# Altium schematic symbol library FadigasLibSCH.SchLib: 31 symbols
Pins are listed as number, name and electrical type; pins without a type are passive.

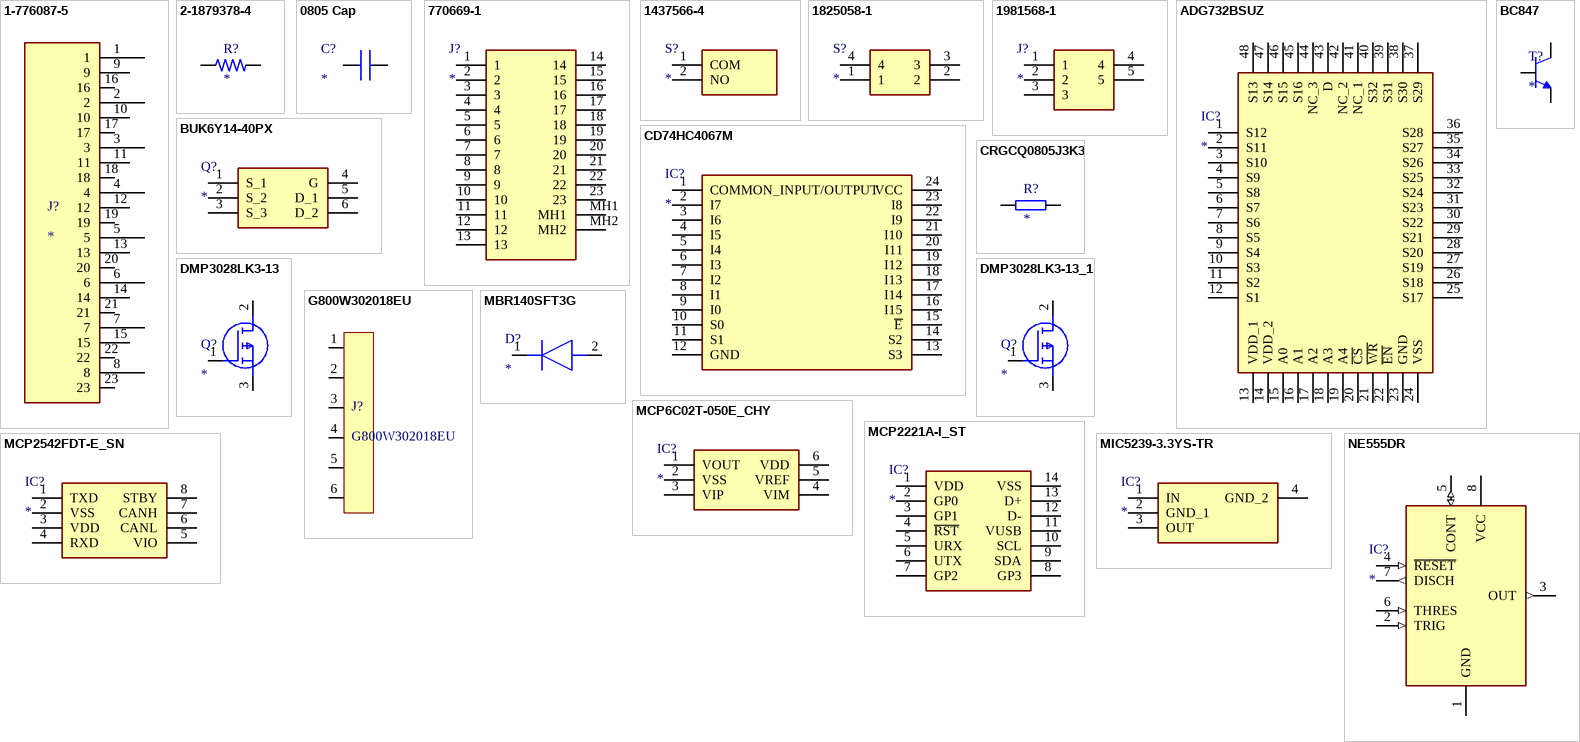
[diagram p0: symbols 1-776087-5 to NE555DR]

## 1-776087-5
designator J?
CONN HDR 23POS R/A W/GASKET AU; MF: {'manufacturer': 'TE Connectivity'}; MP: 1-776087-5; Package: None; Value: *; Availability: Unavailable; Price: None
footprint TE_1-776087-5
pins: 1, 2, 3, 4, 5, 6, 7, 8, 9, 10, 11, 12, 13, 14, 15, 16, 17, 18, 19, 20, 21, 22, 23

## 2-1879378-4
designator R?
TLR 2512 3.0W R002 1% 50PPM 2K RL; MP: 2-1879378-4; Package: None; Price: None; Value: *; Availability: Unavailable
footprint RESC6331X70N
pins: 1, 2

## 0805 Cap
designator C?
Capacitor; Manufacturer_Name: AVX; Manufacturer_Part_Number: 08055A471KAT2A; Datasheet Link: https://componentsearchengine.com/Datasheets/1/06031A100FAT2A.pdf; Height: 0.94mm; Mouser Part Number: 581-08055A471K; Mouser Price/Stock: https://www.mouser.com/Search/Refine.aspx?Keyword=581-08055A471K
footprint CAPC2012X94N
pins: 1, 2

## 770669-1
designator J?
Connector; Manufacturer_Name: TE Connectivity; Manufacturer_Part_Number: 770669-1; Datasheet Link: https://www.te.com/commerce/DocumentDelivery/DDEController?Action=showdoc&DocId=Customer+Drawing%7F770669%7FL%7Fpdf%7FEnglish%7FENG_CD_770669_L.pdf%7F770669-1; Height: 32.3mm; Mouser Part Number: 571-770669-1; Mouser Price/Stock: https://www.mouser.co.uk/ProductDetail/TE-Connectivity/770669-1?qs=bVE8zYB%2Fq2eQrARJAzxzTA%3D%3D; Arrow Part Number: 770669-1; Arrow Price/Stock: https://www.arrow.com/en/products/770669-1/te-connectivity?region=nac
footprint 7706691
pins: 1, 2, 3, 4, 5, 6, 7, 8, 9, 10, 11, 12, 13, 14, 15, 16, 17, 18, 19, 20, 21, 22, 23, MH1, MH2

## 1437566-4
designator S?
Switch; Manufacturer_Name: TE Connectivity; Manufacturer_Part_Number: 1437566-4; Datasheet Link: https://www.te.com/commerce/DocumentDelivery/DDEController?Action=showdoc&DocId=Customer+Drawing%7F1437566-3%7FC2%7Fpdf%7FEnglish%7FENG_CD_1437566-3_C7F14375662_1437566_3_1_c.dwg.pdf%-4; Height: 4.87mm; Mouser Part Number: N/A; Mouser Price/Stock: https://www.mouser.co.uk/ProductDetail/TE-Connectivity-Alcoswitch/1437566-4?qs=xoXDFGdkQ2nbcMrTmW1sHA%3D%3D; Arrow Part Number: 1437566-4; Arrow Price/Stock: https://www.arrow.com/en/products/1437566-4/te-connectivity?region=europe
footprint 14375664
pins: 1 COM, 2 NO

## 1825058-1
designator S?
Switch; Manufacturer_Name: TE Connectivity; Manufacturer_Part_Number: 1825058-1; Datasheet Link: http://www.te.com/commerce/DocumentDelivery/DDEController?Action=srchrtrv&DocNm=1825058&DocType=Customer+Drawing&DocLang=English; Height: 3.5mm; Arrow Part Number: 1825058-1; Arrow Price/Stock: https://www.arrow.com/en/products/1825058-1/te-connectivity?region=europe
footprint 18250581
pins: 1, 2, 3, 4

## 1981568-1
designator J?
Connector; Manufacturer_Name: TE Connectivity; Manufacturer_Part_Number: 1981568-1; Datasheet Link: http://www.te.com/commerce/DocumentDelivery/DDEController?Action=srchrtrv&DocNm=1981568&DocType=Customer+Drawing&DocLang=English; Mouser Part Number: 571-1981568-1; Mouser Price/Stock: https://www.mouser.co.uk/ProductDetail/TE-Connectivity/1981568-1?qs=zxTme0yW%2FbaAfvOKTKC5hw%3D%3D; Arrow Part Number: 1981568-1; Arrow Price/Stock: https://www.arrow.com/en/products/1981568-1/te-connectivity?region=nac
footprint 1981568-1
pins: 1, 2, 3, 4, 5

## ADG732BSUZ
designator IC?
Integrated Circuit; Manufacturer_Name: Analog Devices; Manufacturer_Part_Number: ADG732BSUZ; Datasheet Link: https://datasheet.datasheetarchive.com/originals/distributors/Datasheets-4/DSA-69835.pdf; Height: 1.2mm; Mouser Part Number: 584-ADG732BSUZ; Mouser Price/Stock: https://www.mouser.co.uk/ProductDetail/Analog-Devices/ADG732BSUZ?qs=BpaRKvA4VqFZhnJK9M1XMA%3D%3D; Arrow Part Number: ADG732BSUZ; Arrow Price/Stock: https://www.arrow.com/en/products/adg732bsuz/analog-devices?region=nac
footprint QFP50P900X900X120-48N
pins: 1 S12, 2 S11, 3 S10, 4 S9, 5 S8, 6 S7, 7 S6, 8 S5, 9 S4, 10 S3, 11 S2, 12 S1, 13 VDD_1, 14 VDD_2, 15 A0, 16 A1, 17 A2, 18 A3, 19 A4, 20 ~{CS}, 21 ~{WR}, 22 ~{EN}, 23 GND, 24 VSS, 25 S17, 26 S18, 27 S19, 28 S20, 29 S21, 30 S22, 31 S23, 32 S24, 33 S25, 34 S26, 35 S27, 36 S28, 37 S29, 38 S30, 39 S31, 40 S32, 41 NC_1, 42 NC_2, 43 D, 44 NC_3, 45 S16, 46 S15, 47 S14, 48 S13

## BC847
designator T?
<b>NPN TRANSISTOR</b>; MP: BC847; Availability: Unavailable; Package: None; Value: *; Price: None
footprint SOT23
pins: 1 B, 2 E, 3 C

## BUK6Y14-40PX
designator Q?
MOSFET (P-Channel); Manufacturer_Name: Nexperia; Manufacturer_Part_Number: BUK6Y14-40PX; Datasheet Link: https://assets.nexperia.com/documents/data-sheet/BUK6Y14-40P.pdf; Height: 1.2mm; Mouser Part Number: 771-BUK6Y14-40PX; Mouser Price/Stock: https://www.mouser.co.uk/ProductDetail/Nexperia/BUK6Y14-40PX?qs=vmHwEFxEFR91d%252BcXKqAEkw%3D%3D
footprint BUK6Y1440PX
pins: 1 S_1, 2 S_2, 3 S_3, 4 G, 5 D_1, 6 D_2

## CD74HC4067M
designator IC?
Integrated Circuit; Manufacturer_Name: Texas Instruments; Manufacturer_Part_Number: CD74HC4067M; Datasheet Link: http://www.ti.com/lit/ds/symlink/cd74hc4067.pdf; Height: 2.65mm; Mouser Part Number: 595-CD74HC4067M; Mouser Price/Stock: https://www.mouser.co.uk/ProductDetail/Texas-Instruments/CD74HC4067M?qs=DcvZ7Fltd5zoWTm6dRwGeQ%3D%3D; Arrow Part Number: CD74HC4067M; Arrow Price/Stock: https://www.arrow.com/en/products/cd74hc4067m/texas-instruments?region=nac
footprint SOIC127P1030X265-24N
pins: 1 COMMON_INPUT/OUTPUT, 2 I7, 3 I6, 4 I5, 5 I4, 6 I3, 7 I2, 8 I1, 9 I0, 10 S0, 11 S1, 12 GND, 13 S3, 14 S2, 15 ~{E}, 16 I15, 17 I14, 18 I13, 19 I12, 20 I11, 21 I10, 22 I9, 23 I8, 24 VCC

## CRGCQ0805J3K3
designator R?
Fixed Resistor CRGCQ 0805 3K3 5%; MP: CRGCQ0805J3K3; Package: None; Price: None; Value: *; Availability: Unavailable
footprint RESC2012X65N
pins: 1, 2

## DMP3028LK3-13
designator Q?
MOSFET (P-Channel); Manufacturer_Name: Diodes Inc.; Manufacturer_Part_Number: DMP3028LK3-13; Datasheet Link: https://componentsearchengine.com/Datasheets/1/DMP3028LK3-13.pdf; Height: 2.39mm; Mouser Part Number: 621-DMP3028LK3-13; Mouser Price/Stock: https://www.mouser.co.uk/ProductDetail/Diodes-Incorporated/DMP3028LK3-13?qs=OVC8WVYZliSFpRP3sPErZQ%3D%3D; Arrow Part Number: DMP3028LK3-13; Arrow Price/Stock: https://www.arrow.com/en/products/dmp3028lk3-13/diodes-incorporated
footprint DMP3028LK313 (Footprint not found)
pins: 1 G, 2 D, 3 S

## DMP3028LK3-13_1
designator Q?
MOSFET (P-Channel); Manufacturer_Name: Diodes Inc.; Manufacturer_Part_Number: DMP3028LK3-13; Datasheet Link: https://componentsearchengine.com/Datasheets/1/DMP3028LK3-13.pdf; Height: 2.39mm; Mouser Part Number: 621-DMP3028LK3-13; Mouser Price/Stock: https://www.mouser.co.uk/ProductDetail/Diodes-Incorporated/DMP3028LK3-13?qs=OVC8WVYZliSFpRP3sPErZQ%3D%3D; Arrow Part Number: DMP3028LK3-13; Arrow Price/Stock: https://www.arrow.com/en/products/dmp3028lk3-13/diodes-incorporated
footprint DMP3028LK313
pins: 1 G, 2 D, 3 S

## G800W302018EU
designator J?
Pin Header 6 Position 2.54mm Pitch; Manufacturer: Amphenol; Manufacturer Part Number: G800W302018EU
footprint G800W302018EU (Footprint not found)
pins: 1, 2, 3, 4, 5, 6

## MBR140SFT3G
designator D?
Diode; Manufacturer_Name: onsemi; Manufacturer_Part_Number: MBR140SFT3G; Datasheet Link: https://componentsearchengine.com/Datasheets/2/MBR140SFT3G.pdf; Height: 0.98mm; Mouser Part Number: 863-MBR140SFT3G; Mouser Price/Stock: https://www.mouser.co.uk/ProductDetail/onsemi/MBR140SFT3G?qs=3JMERSakebocVlQyvh5H6Q%3D%3D; Arrow Part Number: MBR140SFT3G; Arrow Price/Stock: https://www.arrow.com/en/products/mbr140sft3g/on-semiconductor?region=nac
footprint SODFL3616X98N
pins: 1 K, 2 A

## MCP6C02T-050E_CHY
designator IC?
Integrated Circuit; Manufacturer_Name: Microchip; Manufacturer_Part_Number: MCP6C02T-050E/CHY; Datasheet Link: https://www.arrow.com/en/products/mcp6c02t-050echy/microchip-technology; Height: 1.45mm; Mouser Part Number: 579-MCP6C02T050ECHY; Mouser Price/Stock: https://www.mouser.co.uk/ProductDetail/Microchip-Technology/MCP6C02T-050E-CHY?qs=PqoDHHvF649UEQQr%2FDD6GQ%3D%3D; Arrow Part Number: MCP6C02T-050E/CHY; Arrow Price/Stock: https://www.arrow.com/en/products/mcp6c02t-050echy/microchip-technology
footprint SOT95P280X145-6N
pins: 1 VOUT, 2 VSS, 3 VIP, 4 VIM, 5 VREF, 6 VDD

## MCP2221A-I_ST
designator IC?
Integrated Circuit; Manufacturer_Name: Microchip; Manufacturer_Part_Number: MCP2221A-I/ST; Datasheet Link: http://ww1.microchip.com/downloads/en/devicedoc/20005565b.pdf; Height: 1.2mm; Mouser Part Number: 579-MCP2221A-I/ST; Mouser Price/Stock: https://www.mouser.co.uk/ProductDetail/Microchip-Technology-Atmel/MCP2221A-I-ST?qs=ZEMkBHnybREMkqMgzOrcGQ%3D%3D; Arrow Part Number: MCP2221A-I/ST; Arrow Price/Stock: https://www.arrow.com/en/products/mcp2221a-ist/microchip-technology?region=nac
footprint SOP65P640X120-14N
pins: 1 VDD, 2 GP0, 3 GP1, 4 ~{RST}, 5 URX, 6 UTX, 7 GP2, 8 GP3, 9 SDA, 10 SCL, 11 VUSB, 12 D-, 13 D+, 14 VSS

## MCP2542FDT-E_SN
designator IC?
Integrated Circuit; Manufacturer_Name: Microchip; Manufacturer_Part_Number: MCP2542FDT-E/SN; Datasheet Link: https://ww1.microchip.com/downloads/en/DeviceDoc/MCP2542FD-MCP2542WFD-4WFD-Data-Sheet-DS20005514C.pdf; Height: 1.75mm; Mouser Part Number: 579-MCP2542FDT-E/SN; Mouser Price/Stock: https://www.mouser.co.uk/ProductDetail/Microchip-Technology-Atmel/MCP2542FDT-E-SN?qs=qdgZG5p0FZ7dgTYBMrlrQQ%3D%3D; Arrow Part Number: MCP2542FDT-E/SN; Arrow Price/Stock: https://www.arrow.com/en/products/mcp2542fdt-esn/microchip-technology?region=nac
footprint SOIC127P600X175-8N
pins: 1 TXD, 2 VSS, 3 VDD, 4 RXD, 5 VIO, 6 CANL, 7 CANH, 8 STBY

## MIC5239-3.3YS-TR
designator IC?
Integrated Circuit; Manufacturer_Name: Microchip; Manufacturer_Part_Number: MIC5239-3.3YS-TR; Datasheet Link: https://ww1.microchip.com/downloads/en/DeviceDoc/mic5239.pdf; Height: 1.8mm; Mouser Part Number: 998-MIC5239-3.3YSTR; Mouser Price/Stock: https://www.mouser.co.uk/ProductDetail/Microchip-Technology-Micrel/MIC5239-33YS-TR?qs=U6T8BxXiZAXN0UitWWB92A%3D%3D; Arrow Part Number: MIC5239-3.3YS-TR; Arrow Price/Stock: https://www.arrow.com/en/products/mic5239-3.3ys-tr/microchip-technology?region=nac
footprint SOT230P700X180-4N
pins: 1 IN, 2 GND_1, 3 OUT, 4 GND_2

## NE555DR
designator IC?
Integrated Circuit; Manufacturer_Name: Texas Instruments; Manufacturer_Part_Number: NE555DR; Datasheet Link: http://www.ti.com/lit/ds/symlink/ne555.pdf; Height: 1.75mm; Mouser Part Number: 595-NE555DR; Mouser Price/Stock: https://www.mouser.com/Search/Refine.aspx?Keyword=595-NE555DR; RS Part Number: 1218414; RS Price/Stock: http://uk.rs-online.com/web/p/products/1218414
footprint SOIC127P600X175-8N
pins: 1 GND (power), 2 TRIG (in), 3 OUT (out), 4 ~{RESET} (in), 5 CONT (io), 6 THRES (in), 7 DISCH (out), 8 VCC (power)

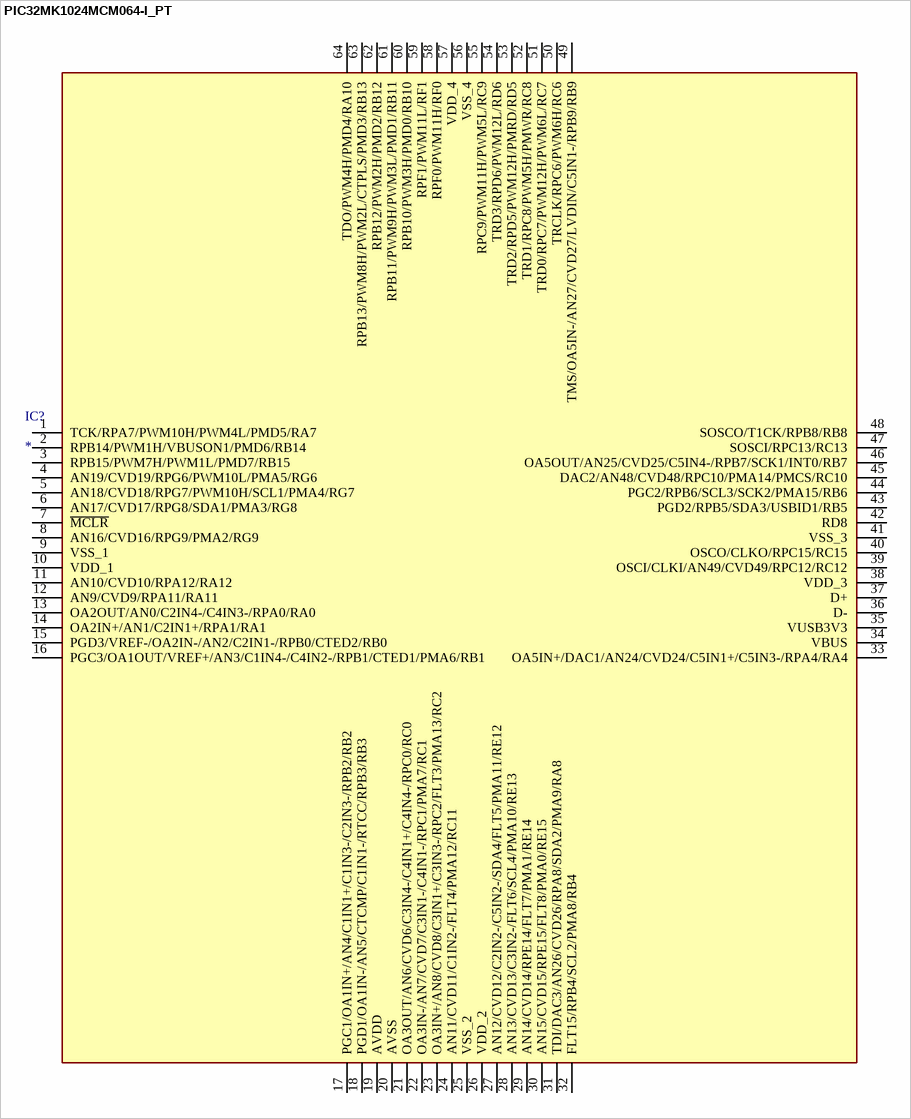
[diagram p1: symbol PIC32MK1024MCM064-I_PT]

## PIC32MK1024MCM064-I_PT
designator IC?
Integrated Circuit; Manufacturer_Name: Microchip; Manufacturer_Part_Number: PIC32MK1024MCM064-I/PT; Datasheet Link: https://ww1.microchip.com/downloads/aemDocuments/documents/MCU32/ProductDocuments/DataSheets/PIC32MK-GPK-MCM-with-CAN-FD-Family-DataSheet-DS60001519E.pdf; Height: 1.2mm; Mouser Part Number: 579-2MK1024MCM064IPT; Mouser Price/Stock: https://www.mouser.co.uk/ProductDetail/Microchip-Technology/PIC32MK1024MCM064-I-PT?qs=W%2FMpXkg%252BdQ4dBI32NJdQMg%3D%3D; Arrow Part Number: PIC32MK1024MCM064-I/PT; Arrow Price/Stock: https://www.arrow.com/en/products/pic32mk1024mcm064-ipt/microchip-technology?region=nac
footprint QFP50P1200X1200X120-64N
pins: 1 TCK/RPA7/PWM10H/PWM4L/PMD5/RA7, 2 RPB14/PWM1H/VBUSON1/PMD6/RB14, 3 RPB15/PWM7H/PWM1L/PMD7/RB15, 4 AN19/CVD19/RPG6/PWM10L/PMA5/RG6, 5 AN18/CVD18/RPG7/PWM10H/SCL1/PMA4/RG7, 6 AN17/CVD17/RPG8/SDA1/PMA3/RG8, 7 ~{MCLR}, 8 AN16/CVD16/RPG9/PMA2/RG9, 9 VSS_1, 10 VDD_1, 11 AN10/CVD10/RPA12/RA12, 12 AN9/CVD9/RPA11/RA11, 13 OA2OUT/AN0/C2IN4-/C4IN3-/RPA0/RA0, 14 OA2IN+/AN1/C2IN1+/RPA1/RA1, 15 PGD3/VREF-/OA2IN-/AN2/C2IN1-/RPB0/CTED2/RB0, 16 PGC3/OA1OUT/VREF+/AN3/C1IN4-/C4IN2-/RPB1/CTED1/PMA6/RB1, 17 PGC1/OA1IN+/AN4/C1IN1+/C1IN3-/C2IN3-/RPB2/RB2, 18 PGD1/OA1IN-/AN5/CTCMP/C1IN1-/RTCC/RPB3/RB3, 19 AVDD, 20 AVSS, 21 OA3OUT/AN6/CVD6/C3IN4-/C4IN1+/C4IN4-/RPC0/RC0, 22 OA3IN-/AN7/CVD7/C3IN1-/C4IN1-/RPC1/PMA7/RC1, 23 OA3IN+/AN8/CVD8/C3IN1+/C3IN3-/RPC2/FLT3/PMA13/RC2, 24 AN11/CVD11/C1IN2-/FLT4/PMA12/RC11, 25 VSS_2, 26 VDD_2, 27 AN12/CVD12/C2IN2-/C5IN2-/SDA4/FLT5/PMA11/RE12, 28 AN13/CVD13/C3IN2-/FLT6/SCL4/PMA10/RE13, 29 AN14/CVD14/RPE14/FLT7/PMA1/RE14, 30 AN15/CVD15/RPE15/FLT8/PMA0/RE15, 31 TDI/DAC3/AN26/CVD26/RPA8/SDA2/PMA9/RA8, 32 FLT15/RPB4/SCL2/PMA8/RB4, 33 OA5IN+/DAC1/AN24/CVD24/C5IN1+/C5IN3-/RPA4/RA4, 34 VBUS, 35 VUSB3V3, 36 D-, 37 D+, 38 VDD_3, 39 OSCI/CLKI/AN49/CVD49/RPC12/RC12, 40 OSCO/CLKO/RPC15/RC15, 41 VSS_3, 42 RD8, 43 PGD2/RPB5/SDA3/USBID1/RB5, 44 PGC2/RPB6/SCL3/SCK2/PMA15/RB6, 45 DAC2/AN48/CVD48/RPC10/PMA14/PMCS/RC10, 46 OA5OUT/AN25/CVD25/C5IN4-/RPB7/SCK1/INT0/RB7, 47 SOSCI/RPC13/RC13, 48 SOSCO/T1CK/RPB8/RB8, 49 TMS/OA5IN-/AN27/CVD27/LVDIN/C5IN1-/RPB9/RB9, 50 TRCLK/RPC6/PWM6H/RC6, 51 TRD0/RPC7/PWM12H/PWM6L/RC7, 52 TRD1/RPC8/PWM5H/PMWR/RC8, 53 TRD2/RPD5/PWM12H/PMRD/RD5, 54 TRD3/RPD6/PWM12L/RD6, 55 RPC9/PWM11H/PWM5L/RC9, 56 VSS_4, 57 VDD_4, 58 RPF0/PWM11H/RF0, 59 RPF1/PWM11L/RF1, 60 RPB10/PWM3H/PMD0/RB10, 61 RPB11/PWM9H/PWM3L/PMD1/RB11, 62 RPB12/PWM2H/PMD2/RB12, 63 RPB13/PWM8H/PWM2L/CTPLS/PMD3/RB13, 64 TDO/PWM4H/PMD4/RA10

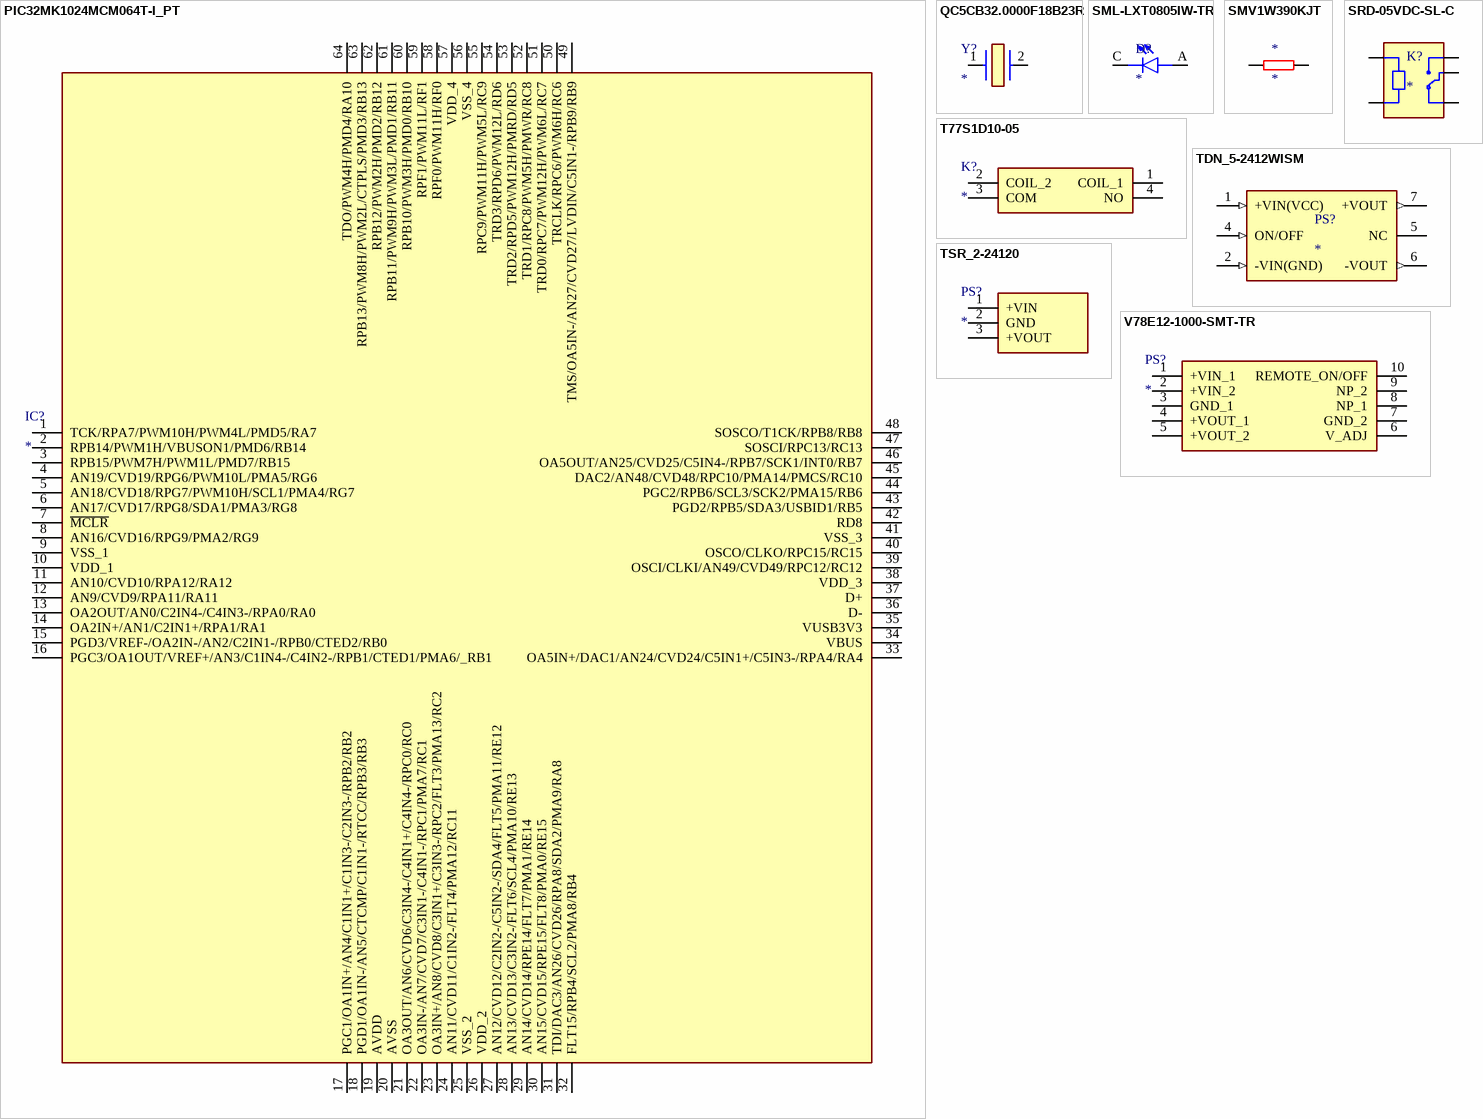
[diagram p2: symbols PIC32MK1024MCM064T-I_PT to V78E12-1000-SMT-TR]

## PIC32MK1024MCM064T-I_PT
designator IC?
Integrated Circuit; Manufacturer_Name: Microchip; Manufacturer_Part_Number: PIC32MK1024MCM064T-I/PT; Datasheet Link: https://www.microchip.com/wwwproducts/en/PIC32MK1024MCM064; Height: 1.2mm; Mouser Part Number: 579-1024MCM064T-I/PT; Mouser Price/Stock: https://www.mouser.co.uk/ProductDetail/Microchip-Technology/PIC32MK1024MCM064T-I-PT?qs=W%2FMpXkg%252BdQ4o%252BC4RJAPAZQ%3D%3D; Arrow Part Number: PIC32MK1024MCM064T-I/PT; Arrow Price/Stock: https://www.arrow.com/en/products/pic32mk1024mcm064t-ipt/microchip-technology?region=nac
footprint QFP50P1200X1200X120-64N
pins: 1 TCK/RPA7/PWM10H/PWM4L/PMD5/RA7, 2 RPB14/PWM1H/VBUSON1/PMD6/RB14, 3 RPB15/PWM7H/PWM1L/PMD7/RB15, 4 AN19/CVD19/RPG6/PWM10L/PMA5/RG6, 5 AN18/CVD18/RPG7/PWM10H/SCL1/PMA4/RG7, 6 AN17/CVD17/RPG8/SDA1/PMA3/RG8, 7 ~{MCLR}, 8 AN16/CVD16/RPG9/PMA2/RG9, 9 VSS_1, 10 VDD_1, 11 AN10/CVD10/RPA12/RA12, 12 AN9/CVD9/RPA11/RA11, 13 OA2OUT/AN0/C2IN4-/C4IN3-/RPA0/RA0, 14 OA2IN+/AN1/C2IN1+/RPA1/RA1, 15 PGD3/VREF-/OA2IN-/AN2/C2IN1-/RPB0/CTED2/RB0, 16 PGC3/OA1OUT/VREF+/AN3/C1IN4-/C4IN2-/RPB1/CTED1/PMA6/_RB1, 17 PGC1/OA1IN+/AN4/C1IN1+/C1IN3-/C2IN3-/RPB2/RB2, 18 PGD1/OA1IN-/AN5/CTCMP/C1IN1-/RTCC/RPB3/RB3, 19 AVDD, 20 AVSS, 21 OA3OUT/AN6/CVD6/C3IN4-/C4IN1+/C4IN4-/RPC0/RC0, 22 OA3IN-/AN7/CVD7/C3IN1-/C4IN1-/RPC1/PMA7/RC1, 23 OA3IN+/AN8/CVD8/C3IN1+/C3IN3-/RPC2/FLT3/PMA13/RC2, 24 AN11/CVD11/C1IN2-/FLT4/PMA12/RC11, 25 VSS_2, 26 VDD_2, 27 AN12/CVD12/C2IN2-/C5IN2-/SDA4/FLT5/PMA11/RE12, 28 AN13/CVD13/C3IN2-/FLT6/SCL4/PMA10/RE13, 29 AN14/CVD14/RPE14/FLT7/PMA1/RE14, 30 AN15/CVD15/RPE15/FLT8/PMA0/RE15, 31 TDI/DAC3/AN26/CVD26/RPA8/SDA2/PMA9/RA8, 32 FLT15/RPB4/SCL2/PMA8/RB4, 33 OA5IN+/DAC1/AN24/CVD24/C5IN1+/C5IN3-/RPA4/RA4, 34 VBUS, 35 VUSB3V3, 36 D-, 37 D+, 38 VDD_3, 39 OSCI/CLKI/AN49/CVD49/RPC12/RC12, 40 OSCO/CLKO/RPC15/RC15, 41 VSS_3, 42 RD8, 43 PGD2/RPB5/SDA3/USBID1/RB5, 44 PGC2/RPB6/SCL3/SCK2/PMA15/RB6, 45 DAC2/AN48/CVD48/RPC10/PMA14/PMCS/RC10, 46 OA5OUT/AN25/CVD25/C5IN4-/RPB7/SCK1/INT0/RB7, 47 SOSCI/RPC13/RC13, 48 SOSCO/T1CK/RPB8/RB8, 49 TMS/OA5IN-/AN27/CVD27/LVDIN/C5IN1-/RPB9/RB9, 50 TRCLK/RPC6/PWM6H/RC6, 51 TRD0/RPC7/PWM12H/PWM6L/RC7, 52 TRD1/RPC8/PWM5H/PMWR/RC8, 53 TRD2/RPD5/PWM12H/PMRD/RD5, 54 TRD3/RPD6/PWM12L/RD6, 55 RPC9/PWM11H/PWM5L/RC9, 56 VSS_4, 57 VDD_4, 58 RPF0/PWM11H/RF0, 59 RPF1/PWM11L/RF1, 60 RPB10/PWM3H/PMD0/RB10, 61 RPB11/PWM9H/PWM3L/PMD1/RB11, 62 RPB12/PWM2H/PMD2/RB12, 63 RPB13/PWM8H/PWM2L/CTPLS/PMD3/RB13, 64 TDO/PWM4H/PMD4/RA10

## QC5CB32.0000F18B23R
designator Y?
Crystal or Oscillator; Manufacturer_Name: Qantek; Manufacturer_Part_Number: QC5CB32.0000F18B23R
footprint QC5CB
pins: 1, 2

## SML-LXT0805IW-TR
designator D?
Red - LED Indication - Discrete 2V 0805 (2012 Metric); MP: SML-LXT0805IW-TR; MF: Lumex Opto/Components; Check_prices: https://www.snapeda.com/parts/SML-LXT0805IW-TR/Lumex+Opto%252FComponents+Inc./view-part/?ref=eda; Price: None; SnapEDA_Link: https://www.snapeda.com/parts/SML-LXT0805IW-TR/Lumex+Opto%252FComponents+Inc./view-part/?ref=snap; Availability: In Stock; Value: *; Purchase-URL: https://pricing.snapeda.com/search/part/SML-LXT0805IW-TR/?ref=eda; Package: 0805 Lumex
footprint LEDC2012X120N
pins: A, C

## SMV1W390KJT
designator *
footprint SMV1W390KJT
pins: 1, 2

## SRD-05VDC-SL-C
designator K?
5V Trigger Relay Module For Arduino And Raspberry Pi 5V Trigger Relay Module For Arduino And Raspberry Pi; MF: Songle Relay; MP: SRD-05VDC-SL-C; Check_prices: https://www.snapeda.com/parts/SRD-05VDC-SL-C/Songle+Relay/view-part/?ref=eda; Value: *; Availability: Not in stock; Price: None; Package: NON STANDARD-5 Songle Relay; SnapEDA_Link: https://www.snapeda.com/parts/SRD-05VDC-SL-C/Songle+Relay/view-part/?ref=snap
footprint RELAY_SRD-05VDC-SL-C
pins: A1, A2, COM, NC, NO

## T77S1D10-05
designator K?
Relay or Contactor; Manufacturer_Name: TE Connectivity; Manufacturer_Part_Number: T77S1D10-05; Datasheet Link: http://www.te.com/commerce/DocumentDelivery/DDEController?Action=showdoc&DocId=Customer+Drawing%7F1-1393194-9%7FE%7Fpdf%7FEnglish%7FENG_CD_1-1393194-9_E.pdf%7F1393194-7; Height: 15.4mm; Mouser Part Number: 655-T77S1D10-05; Mouser Price/Stock: https://www.mouser.co.uk/ProductDetail/TE-Connectivity-PB/T77S1D10-05?qs=WGv6JurbsheCyCDRdY%252Bu%252BQ%3D%3D; Arrow Part Number: T77S1D10-05; Arrow Price/Stock: https://www.arrow.com/en/products/t77s1d10-05/te-connectivity
footprint T77S1D1005
pins: 1 COIL_1, 2 COIL_2, 3 COM, 4 NO

## TDN_5-2412WISM
designator PS?
1 Watt DC/DC converter, industrial, 4:1 input, high power density, regulated, encapsulated, SMD package; MP: TDN_5-2412WISM; Price: None; Value: *; Availability: Unavailable; Package: None
footprint CONV_TDN_5-2412WISM (Footprint not found)
pins: 1 +VIN(VCC) (in), 2 -VIN(GND) (in), 4 ON/OFF (in), 5 NC, 6 -VOUT (out), 7 +VOUT (out)

## TSR_2-24120
designator PS?
Power Supply; Manufacturer_Name: Traco Power; Manufacturer_Part_Number: TSR 2-24120; Datasheet Link: https://tracopower.com/tsr2-datasheet/; Mouser Part Number: 495-TSR2-24120; Mouser Price/Stock: https://www.mouser.co.uk/ProductDetail/TRACO-Power/TSR-2-24120?qs=NtE2QagKf6T34HiGRDOLrw%3D%3D; Arrow Part Number: TSR 2-24120; Arrow Price/Stock: https://www.arrow.com/en/products/tsr2-24120/traco-electronic-ag?region=europe
footprint TSR-2
pins: 1 +VIN, 2 GND, 3 +VOUT

## V78E12-1000-SMT-TR
designator PS?
Power Supply; Manufacturer_Name: CUI Inc.; Manufacturer_Part_Number: V78E12-1000-SMT-TR; Datasheet Link: https://www.cui.com/product/resource/v78e-1000-smt.pdf; Height: 8.25mm; Mouser Part Number: 490-V78E12-1000SMTTR; Mouser Price/Stock: https://www.mouser.co.uk/ProductDetail/CUI-Inc/V78E12-1000-SMT-TR?qs=qSfuJ%252Bfl%2Fd68MauDzRjlgw%3D%3D; Arrow Part Number: V78E12-1000-SMT-TR; Arrow Price/Stock: https://www.arrow.com/en/products/v78e12-1000-smt-tr/cui-inc
footprint CONV_V78E12-1000-SMT-TR
pins: 1 +VIN_1, 2 +VIN_2, 3 GND_1, 4 +VOUT_1, 5 +VOUT_2, 6 V_ADJ, 7 GND_2, 8 NP_1, 9 NP_2, 10 REMOTE_ON/OFF